# Altium integrated library TC2030-IDC-NL.IntLib: 1 symbol
Pins are listed as number, name and electrical type; pins without a type are passive.

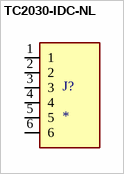
[diagram p0: symbol TC2030-IDC-NL]

## TC2030-IDC-NL
designator J?
CABLE ADAPTER 6 POS; MP: TC2030-IDC-NL; Value: *; Availability: Unavailable; Package: None; Price: None
footprint TAG_TC2030-IDC-NL
pins: 1, 2, 3, 4, 5, 6